# Altium schematic symbol library MOLDUL_L298.SchLib: 1 symbol
Pins are listed as number, name and electrical type; pins without a type are passive.

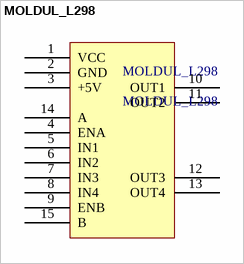
[diagram p0: symbol MOLDUL_L298]

## MOLDUL_L298
designator MOLDUL_L298
footprint MOLDUL_L298
pins: 1 VCC, 2 GND, 3 +5V, 4 ENA, 5 IN1, 6 IN2, 7 IN3, 8 IN4, 9 ENB, 10 OUT1, 11 OUT2, 12 OUT3, 13 OUT4, 14 A, 15 B